# Altium footprint library EVQP0405M.PcbLib: 1 footprints
Each footprint in its own frame and in the unit in brackets; x right, y up, seen from the top. Pads: shape width x height; smd on the part's side, far side on the other; paste and mask are expansions set on the pad; w line width, h text height; cw(c..) or ccw(c..) is an arc to the next point about the centre after c.
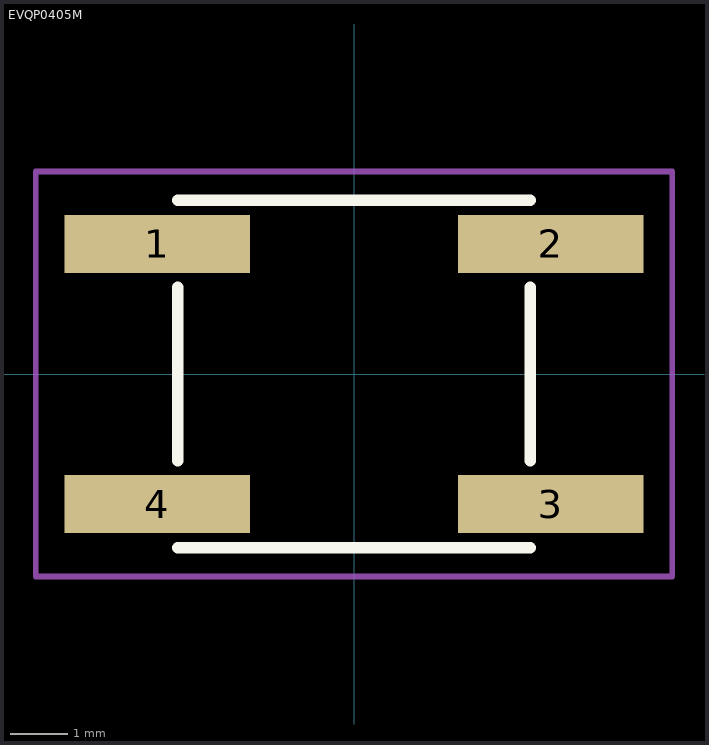
[diagram p0: the footprint, top view; thin cyan lines are the x and y axes]

## EVQP0405M [mm]
pads (4):
  rect 3.2x1 smd: 1(-3.4,2.25) 2(3.4,2.25) 3(3.4,-2.25) 4(-3.4,-2.25)
Top Overlay:
  lines w0.2: -3.05,-3 3.05,-3 ; -3.05,-1.5 -3.05,1.5 ; -3.05,3 3.05,3 ; 3.05,-1.5 3.05,1.5
Top Courtyard:
  lines w0.1: -5.5,-3.5 5.5,-3.5 5.5,3.5 -5.5,3.5 -5.5,-3.5
3D body "EVQ-P0405M.STEP": height 5, standoff 0, extent -3.7,-3.028 3.7,3.028